# Altium schematic symbol library Ext-Molex.SchLib: 1 symbol
Pins are listed as number, name and electrical type; pins without a type are passive.

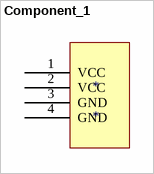
[diagram p0: symbol Component_1]

## Component_1
designator *
footprint MOLEX-P4
pins: 1 VCC, 2 VCC, 3 GND, 4 GND